# EAGLE library part CRODUINO_MININOVA (library e-radionica_E-R MADE)
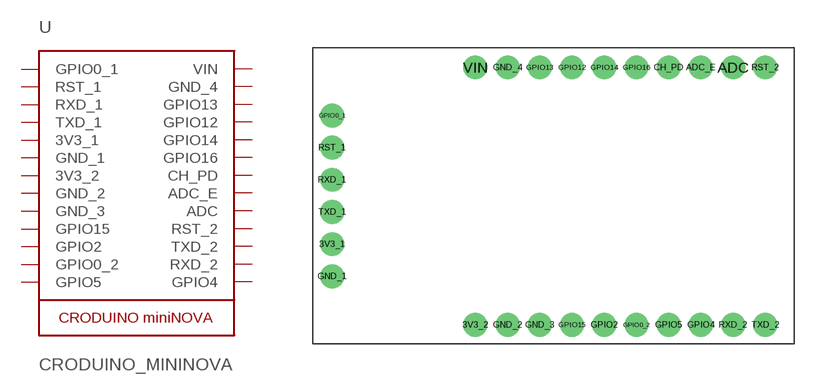
[diagram p14: symbol with the pads of CRODUINO_MININOVA; footprint CRODUINO_MININOVA]

Designator prefix -

## CRODUINO_MININOVA  [CRODUINO_MININOVA]
3V3_1  3V3_1  sup
3V3_2  3V3_2  sup
ADC  ADC
ADC_E  ADC_E
CH_PD  CH_PD
GND_1  GND_1  sup
GND_2  GND_2  sup
GND_3  GND_3  sup
GND_4  GND_4  sup
GPIO0_1  GPIO0_1
GPIO0_2  GPIO0_2
GPIO2  GPIO2
GPIO4  GPIO4
GPIO5  GPIO5
GPIO12  GPIO12
GPIO13  GPIO13
GPIO14  GPIO14
GPIO15  GPIO15
GPIO16  GPIO16
RST_1  RST_1
RST_2  RST_2
RXD_1  RXD_1
RXD_2  RXD_2
TXD_1  TXD_1
TXD_2  TXD_2
VIN  VIN  sup

## Footprint CRODUINO_MININOVA (pad centres in mm)
drill 1.016 pad 1.88: 3V3_1 1.55,7.874; 3V3_2 12.84,1.5; ADC 33.16,21.82; ADC_E 30.62,21.82; CH_PD 28.08,21.82; GND_1 1.55,5.334; GND_2 15.38,1.5; GND_3 17.92,1.5; GND_4 15.38,21.82; GPIO0_1 1.55,18.034; GPIO0_2 25.54,1.5; GPIO2 23,1.5; GPIO4 30.62,1.5; GPIO5 28.08,1.5; GPIO12 20.46,21.82; GPIO13 17.92,21.82; GPIO14 23,21.82; GPIO15 20.46,1.5; GPIO16 25.54,21.82; RST_1 1.55,15.494; RST_2 35.7,21.82; RXD_1 1.55,12.954; RXD_2 33.16,1.5; TXD_1 1.55,10.414; TXD_2 35.7,1.5; VIN 12.84,21.82